# Altium footprint library Common_SMD.PcbLib: 74 footprints (part 5 of 5)
Each footprint in its own frame and in the unit in brackets; x right, y up, seen from the top. Pads: shape width x height; smd on the part's side, far side on the other; paste and mask are expansions set on the pad; w line width, h text height; cw(c..) or ccw(c..) is an arc to the next point about the centre after c.
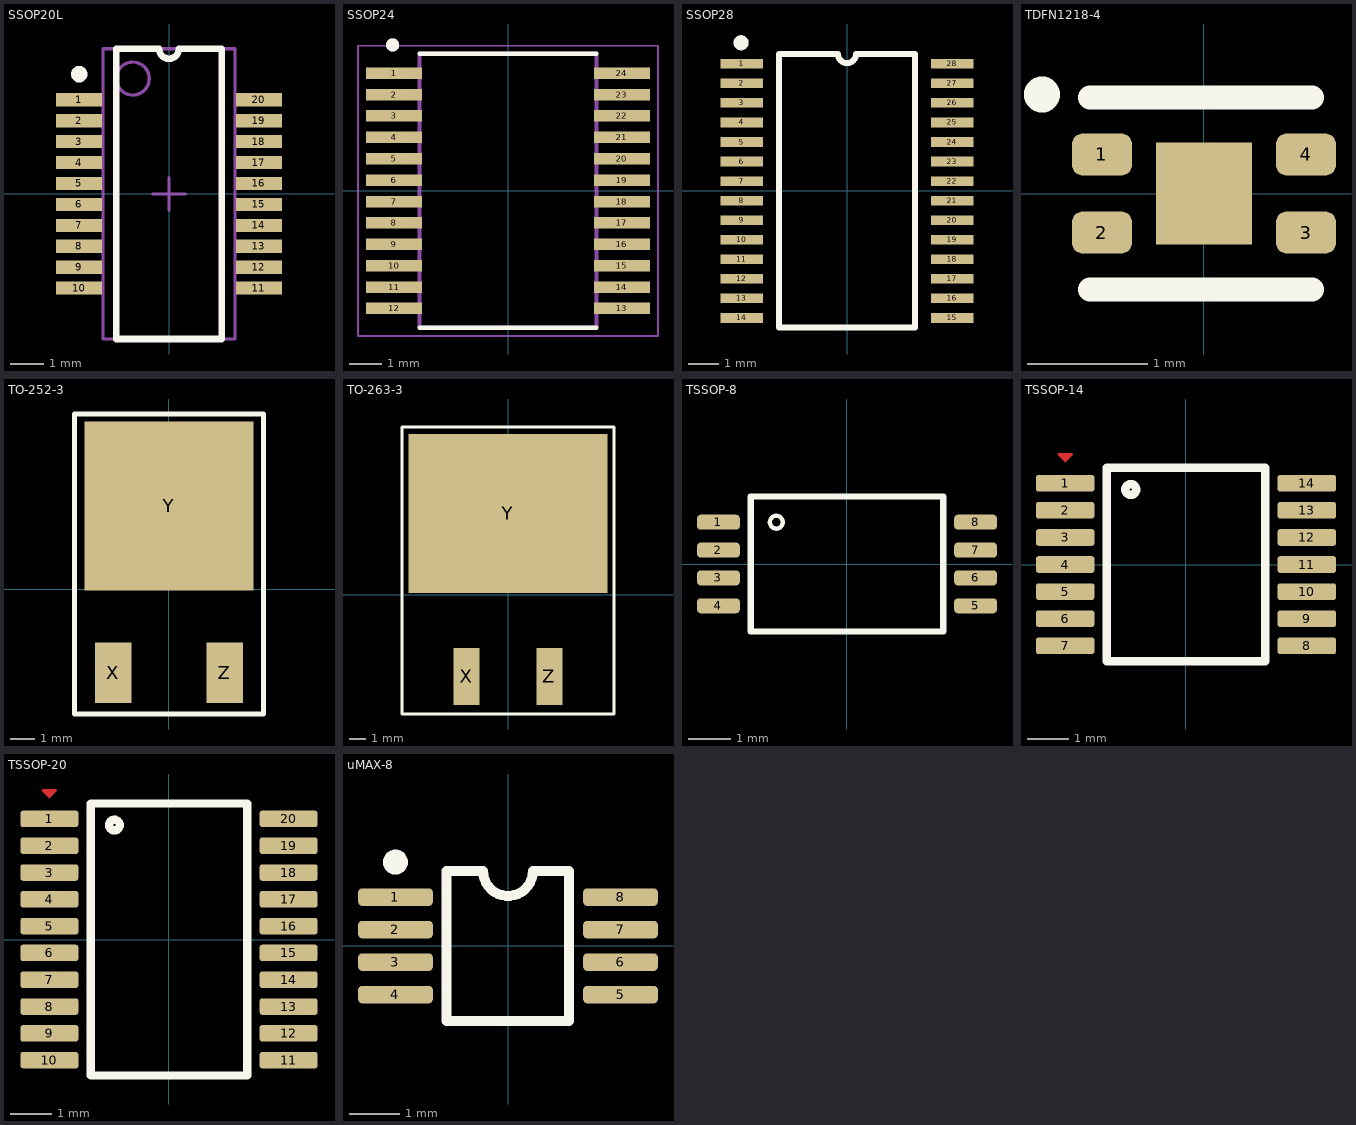
[diagram p4: the footprints below, top view; thin cyan lines are the x and y axes]

## SSOP20L [mm] "SOP, 20-Leads, Body 8,65x3,90mm, Pitch 0,635mm, IPC Medium Density"
height 1.75
pads (20):
  rect 1.4x0.4 smd: 1(-2.725,2.857) 2(-2.725,2.222) 3(-2.725,1.587) 4(-2.725,0.953) 5(-2.725,0.318) 6(-2.725,-0.318) 7(-2.725,-0.953) 8(-2.725,-1.587) 9(-2.725,-2.222) 10(-2.725,-2.857) 11(2.725,-2.857) 12(2.725,-2.222) 13(2.725,-1.587) 14(2.725,-0.953) 15(2.725,-0.318) 16(2.725,0.318) 17(2.725,0.953) 18(2.725,1.587) 19(2.725,2.222) 20(2.725,2.857)
Top Overlay:
  circle w0.25: c-2.725,3.632 r0.125
  lines w0.2: -1.6,-4.4 -1.6,4.4 -0.3,4.4 ccw(c0,4.4) 0.3,4.4 1.6,4.4 1.6,-4.4 -1.6,-4.4
Top Assembly:
  circle w0.1: c-1.1,3.5 r0.5
  lines w0.1: -2,-4.4 -2,4.4 2,4.4 2,-4.4 -2,-4.4
Top Courtyard:
  lines w0.1: -0.5,0 0.5,0 ; 0,-0.5 0,0.5
3D body: height 1.75, standoff 0.1, extent -2,-4.4 2,4.4

## SSOP24 [mm]
height 8.636
pads (24):
  rect 1.7x0.35 smd mask+0.08: 1(-3.46,3.575) 2(-3.46,2.925) 3(-3.46,2.275) 4(-3.46,1.625) 5(-3.46,0.975) 6(-3.46,0.325) 7(-3.46,-0.325) 8(-3.46,-0.975) 9(-3.46,-1.625) 10(-3.46,-2.275) 11(-3.46,-2.925) 12(-3.46,-3.575) 13(3.46,-3.575) 14(3.46,-2.925) 15(3.46,-2.275) 16(3.46,-1.625) 17(3.46,-0.975) 18(3.46,-0.325) 19(3.46,0.325) 20(3.46,0.975) 21(3.46,1.625) 22(3.46,2.275) 23(3.46,2.925) 24(3.46,3.575)
Top Overlay:
  circle w0.2: c-3.509,4.436 r0.1
  lines w0.127: -2.69,-4.165 2.69,-4.165 ; -2.69,4.165 2.69,4.165
Mechanical 13:
  circle w0.2: c-3.509,4.436 r0.1
  lines w0.127: -2.69,-4.165 -2.69,4.165 2.69,4.165 2.69,-4.165 -2.69,-4.165
Mechanical 15:
  lines w0.05: -4.56,-4.415 -4.56,4.415 4.56,4.415 4.56,-4.415 -4.56,-4.415
3D body "step_temp.STEP": height 1.99, standoff 0, extent -3.888,-4.1 3.888,4.1

## SSOP28 [mm]
pads (28):
  rect 1.4x0.32 smd: 1(-3.5,4.225) 2(-3.5,3.575) 3(-3.5,2.925) 4(-3.5,2.275) 5(-3.5,1.625) 6(-3.5,0.975) 7(-3.5,0.325) 8(-3.5,-0.325) 9(-3.5,-0.975) 10(-3.5,-1.625) 11(-3.5,-2.275) 12(-3.5,-2.925) 13(-3.5,-3.575) 14(-3.5,-4.225) 15(3.5,-4.225) 16(3.5,-3.575) 17(3.5,-2.925) 18(3.5,-2.275) 19(3.5,-1.625) 20(3.5,-0.975) 21(3.5,-0.325) 22(3.5,0.325) 23(3.5,0.975) 24(3.5,1.625) 25(3.5,2.275) 26(3.5,2.925) 27(3.5,3.575) 28(3.5,4.225)
Top Overlay:
  circle w0.25: c-3.525,4.925 r0.125
  lines w0.2: -2.265,-4.55 -2.265,4.55 -0.3,4.55 ccw(c0,4.55) 0.3,4.55 2.265,4.55 2.265,-4.55 -2.265,-4.55
3D body "SSOP-28.stp": height 1.97, standoff -0.02, extent -3.844,-5.086 3.956,5.114

## TDFN1218-4 [mm]
pads (5):
  rrect50% 0.5x0.35 smd: 1(-0.85,0.325) 2(-0.85,-0.325) 3(0.85,-0.325) 4(0.85,0.325)
  rect 0.8x0.85 smd: ""(0,0)
Top Overlay:
  circle w0.2: c-1.35,0.825 r0.05
  lines w0.2: -0.95,-0.8 0.9,-0.8 ; -0.95,0.8 0.9,0.8
3D body: height 0.6, standoff 0, extent -0.95,-0.65 0.95,0.65

## TO-252-3 [mm]
height 5
pads (3):
  rect 1.5x2.5 smd: X(-2.3,-3.45) Z(2.3,-3.45)
  rect 7x7 smd: Y(0,3.45)
Top Overlay:
  lines w0.2: -3.9,-5.15 3.9,-5.15 3.9,7.25 -3.9,7.25 -3.9,-5.15
3D body "DPAK(TO-252-3).STEP": height 2.37, standoff -0.03, extent -3.367,-3.598 3.367,6.502

## TO-263-3 [mm]
height 5
pads (3):
  rect 1.6x3.5 smd: X(-2.54,-5) Z(2.54,-5)
  rect 12.2x9.75 smd: Y(0,5)
Top Overlay:
  lines w0.2: -6.5,-7.3 -6.5,10.3 6.5,10.3 6.5,-7.3 -6.5,-7.3
3D body "D2PAK(TO-263-3).STEP": height 4.98, standoff -0.03, extent -5.08,-6.216 5.08,9.048

## TSSOP-8 [mm]
pads (8):
  rrect50% 1x0.35 smd: 1(-3,0.975) 2(-3,0.325) 3(-3,-0.325) 4(-3,-0.975) 5(3,-0.975) 6(3,-0.325) 7(3,0.325) 8(3,0.975)
Top Overlay:
  circle w0.1: c-1.65,0.975 r0.15
  lines w0.15: -2.25,-1.575 2.25,-1.575 2.25,1.575 -2.25,1.575 -2.25,-1.575
3D body "TSSOP-8.STEP": height 1.2, standoff 0, extent -3.25,-1.55 3.25,1.55

## TSSOP-14 [mm]
height 1.2
pads (14):
  rrect30% 1.4x0.4 smd mask+0.08: 1(-2.9,1.95) 2(-2.9,1.3) 3(-2.9,0.65) 4(-2.9,0) 5(-2.9,-0.65) 6(-2.9,-1.3) 7(-2.9,-1.95) 8(2.9,-1.95) 9(2.9,-1.3) 10(2.9,-0.65) 11(2.9,0) 12(2.9,0.65) 13(2.9,1.3) 14(2.9,1.95)
Top Layer:
  region: -2.9,2.45 -2.718,2.632 -2.735,2.675 -3.065,2.675 -3.082,2.632
Top Overlay:
  circle w0.2: c-1.325,1.8 r0.13
  lines w0.2: -1.9,-2.325 1.9,-2.325 1.9,2.325 -1.9,2.325 -1.9,-2.325
3D body "RS0104YQ_(TSSOP-14).step": height 1.2, standoff 0, extent -3.15,-2.25 3.25,2.25

## TSSOP-20 [mm]
pads (20):
  rrect30% 1.4x0.4 smd mask+0.08: 1(-2.9,2.925) 2(-2.9,2.275) 3(-2.9,1.625) 4(-2.9,0.975) 5(-2.9,0.325) 6(-2.9,-0.325) 7(-2.9,-0.975) 8(-2.9,-1.625) 9(-2.9,-2.275) 10(-2.9,-2.925) 11(2.9,-2.925) 12(2.9,-2.275) 13(2.9,-1.625) 14(2.9,-0.975) 15(2.9,-0.325) 16(2.9,0.325) 17(2.9,0.975) 18(2.9,1.625) 19(2.9,2.275) 20(2.9,2.925)
Top Layer:
  region: -2.9,3.425 -2.718,3.607 -2.735,3.65 -3.065,3.65 -3.082,3.607
Top Overlay:
  circle w0.2: c-1.325,2.775 r0.13
  lines w0.2: -1.9,-3.3 -1.9,3.3 1.9,3.3 1.9,-3.3 -1.9,-3.3
3D body "TSSOP20.STEP": height 1.1, standoff 0, extent -3.225,-3.3 3.175,3.3

## uMAX-8 [mm] "uMax-8, 8 pins, pitch 0.65mm"
height 0.95
pads (8):
  rrect50% 1.5x0.35 smd: 1(-2.25,0.975) 2(-2.25,0.325) 3(-2.25,-0.325) 4(-2.25,-0.975) 5(2.25,-0.975) 6(2.25,-0.325) 7(2.25,0.325) 8(2.25,0.975)
Top Overlay:
  circle w0.25: c-2.25,1.675 r0.125
  lines w0.2: -1.225,-1.5 1.225,-1.5 1.225,1.5 0.5,1.5 cw(c0,1.5) -0.5,1.5 -1.225,1.5 -1.225,-1.5
3D body "uMAX8.STEP": height 0.95, standoff 0, extent -2.5,-1.5 2.501,1.5